# Altium schematic symbol library Esima_E_Meter_CPU.SCHLIB: 26 symbols
Pins are listed as number, name and electrical type; pins without a type are passive.

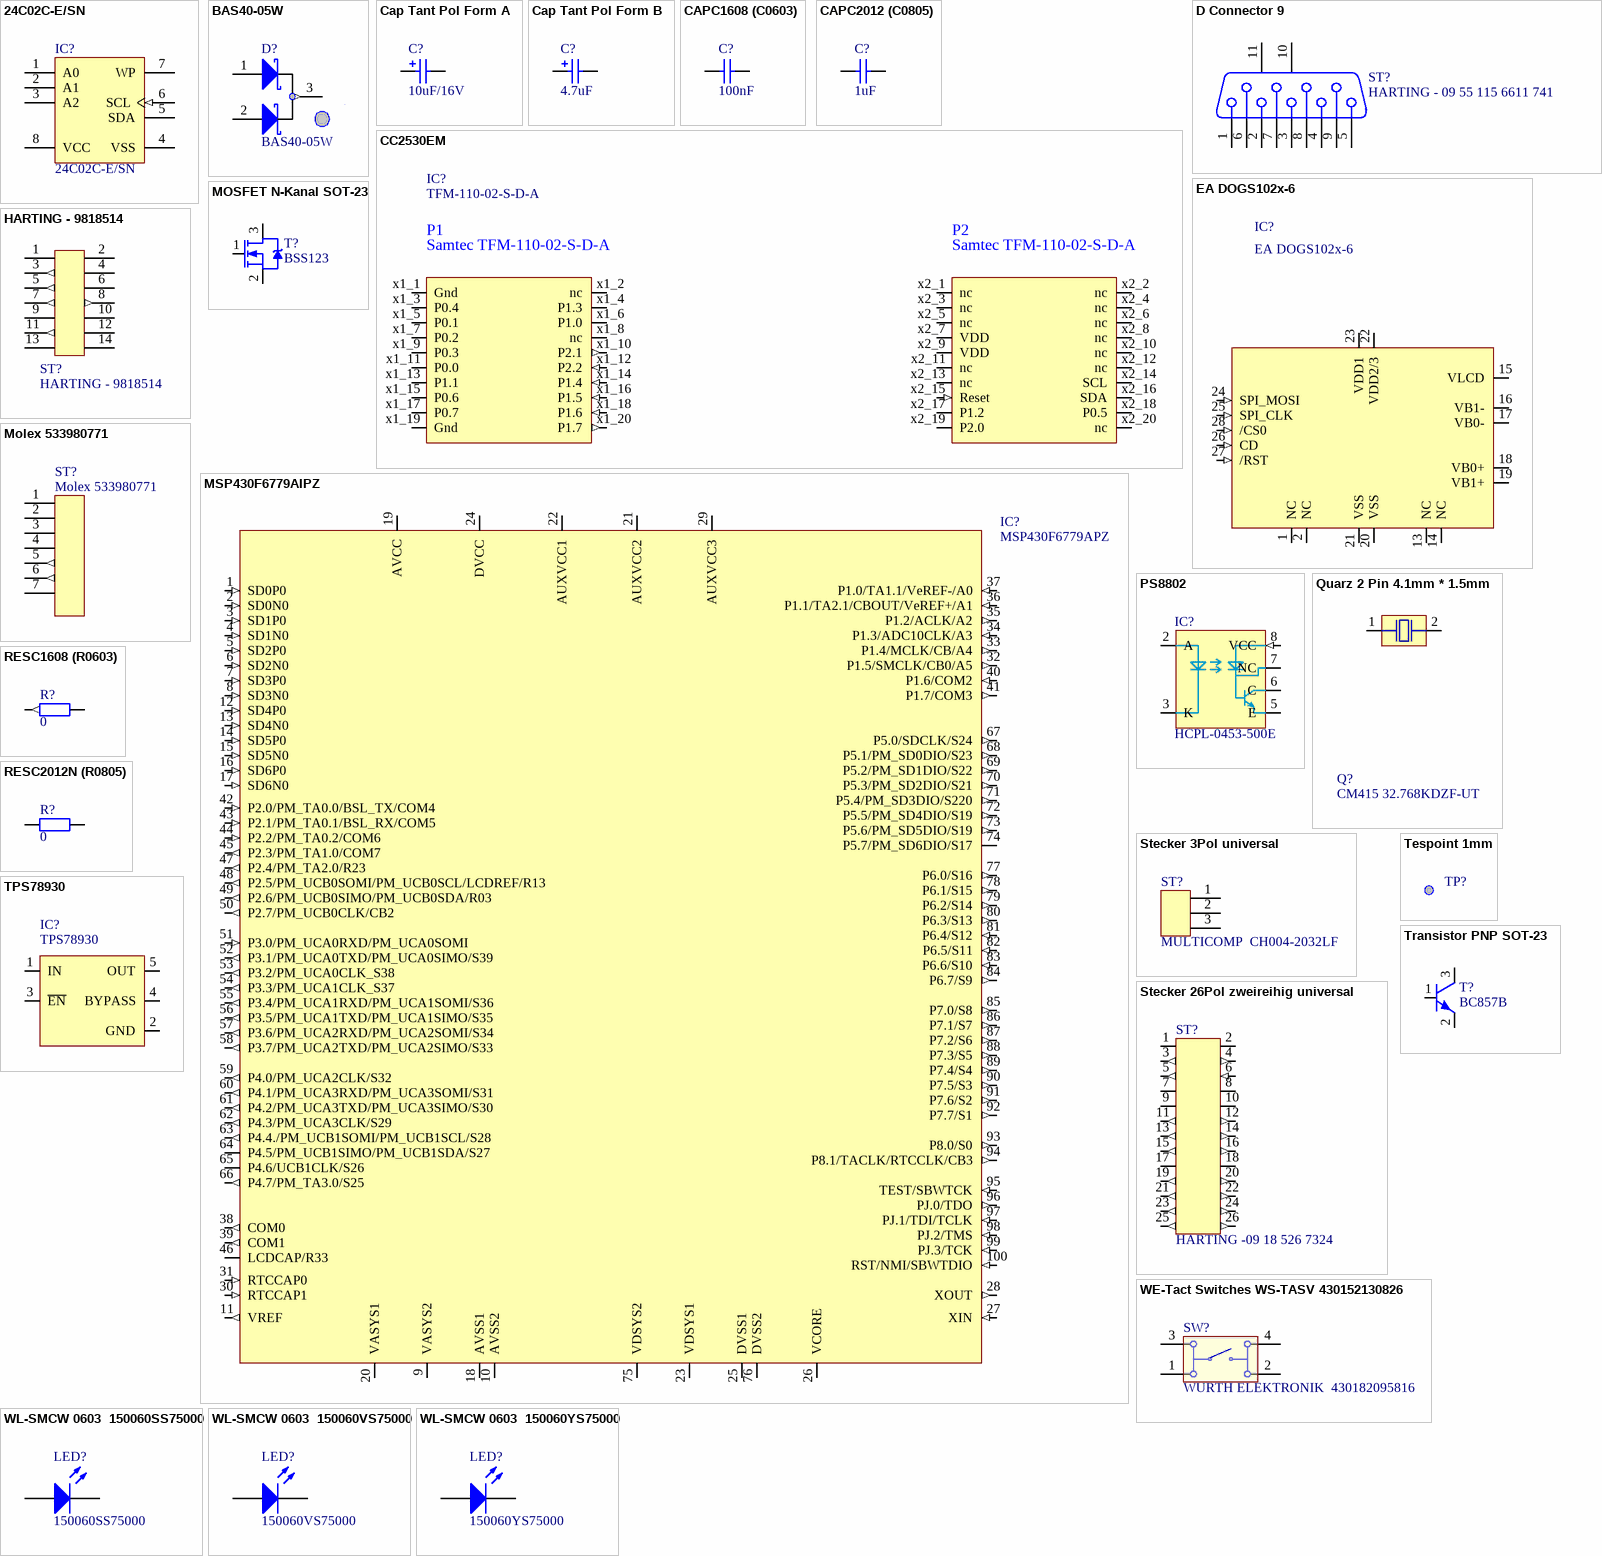
[diagram p0: symbols 24C02C-E/SN to WL-SMCW 0603  150060YS75000]

## 24C02C-E/SN
designator IC?
2Kbit, 400kHz, 5V, I2C Serial EEPROM, 8-Pin SOIC 150mil, Extended Temperature; Supplier 1: Farnell; Supplier Part Number 1: 1084339
footprint SOIC-SN8_N (SOIC, 8-Leads, Body 4.9x3.8mm, Pitch 1.27mm, IPC Medium Density)
footprint SOIC-SN8_L (SOIC, 8-Leads, Body 4.9x3.8mm, Pitch 1.27mm, IPC High Density)
footprint SOIC-SN8_M (SOIC, 8-Leads, Body 4.9x3.8mm, Pitch 1.27mm, IPC Low Density)
pins: 1 A0, 2 A1, 3 A2, 4 VSS (power), 5 SDA (oc), 6 SCL (in), 7 WP, 8 VCC (power)

## BAS40-05W
designator D?
Diode Schottky Dual SOT-323 (SC70); Supplier 1: Farnell; Supplier Part Number 1: 8734330
footprint SOT-323N (SC-70) (SOT323, 3-Leads, Body 2x1.3mm, Pitch 0.65mm, Lead Span 2.1mm, IPC Medium Density)
pins: 1 A1, 2 A2, 3 K (out)

## Cap Tant Pol Form A
designator C?, comment 10uF/16V
Cap Tant Pol Form A; Supplier 1: Farnell; Supplier Part Number 1: 9227873RL
footprint Cap Tant Pol Form A (Tantalum Solid Electrolytic Chip Capacitors  with Conductive Polymer Electrode)
pins: 1, 2

## Cap Tant Pol Form B
designator C?, comment 4.7uF
Supplier 1: Farnell; Supplier Part Number 1: 2353051
footprint Cap Tant Pol Form B (Cap Tantal 6.0mm*3.5*mm*2.8mm)
pins: 1, 2

## CAPC1608 (C0603)
designator C?, comment 100nF
CAPC1608 (C0603); Supplier 1: Farnell; Supplier Part Number 1: 1657913
footprint CAPC1608N (Chip Capacitor, Body 1.6x0.8mm, IPC Medium Density)
footprint VP32-3.2 (Capacitor, Ceramic, Thru-Hole, Dipped Radial; Body 5.1 x 3.2 mm (WxT) Pin Spacing 2.54 mm (typ))
footprint VP45-3.2 (Capacitor, Ceramic, Thru-Hole, Dipped Radial; Body 7.8 x 3.2 mm (WxT) Pin Spacing 5.08 mm (typ))
simulation model CAP (Capacitor)
signal-integrity model Cap
pins: 1, 2

## CAPC2012 (C0805)
designator C?, comment 1uF
CAPC2012 (C0805); Supplier 1: Farnell; Supplier Part Number 1: 9227873RL
footprint CAPC2012N (Chip Capacitor, Body 2.0x1.3mm, IPC Medium Density)
footprint VP45-3.2 (Capacitor, Ceramic, Thru-Hole, Dipped Radial; Body 7.8 x 3.2 mm (WxT) Pin Spacing 5.08 mm (typ))
simulation model CAP (Capacitor)
signal-integrity model Cap
pins: 1, 2

## CC2530EM
designator IC?, comment TFM-110-02-S-D-A
Samtec Connecotor; Supplier 1: Farnell; Supplier Part Number 1: 2308453
footprint CC2530EM-Board (CC2530EM Eva Board)
pins: x1_1 Gnd (power), x1_2 nc, x1_3 P0.4 (io), x1_4 P1.3 (io), x1_5 P0.1 (io), x1_6 P1.0 (io), x1_7 P0.2 (io), x1_8 nc, x1_9 P0.3 (io), x1_10 P2.1 (out), x1_11 P0.0 (io), x1_12 P2.2 (in), x1_13 P1.1 (io), x1_14 P1.4 (in), x1_15 P0.6 (io), x1_16 P1.5 (in), x1_17 P0.7 (io), x1_18 P1.6 (in), x1_19 Gnd (power), x1_20 P1.7 (out), x2_1 nc, x2_2 nc, x2_3 nc, x2_4 nc, x2_5 nc, x2_6 nc, x2_7 VDD (power), x2_8 nc, x2_9 VDD (power), x2_10 nc, x2_11 nc, x2_12 nc, x2_13 nc, x2_14 SCL (oc), x2_15 Reset (in), x2_16 SDA (oc), x2_17 P1.2 (io), x2_18 P0.5 (io), x2_19 P2.0 (io), x2_20 nc
text: P1; P2; Samtec TFM-110-02-S-D-A

## D Connector 9
designator ST?, comment HARTING - 09 55 115 6611 741
HARTING - 09 55 115 6611 741 - D-SUB, BUCHSE, SMT, M3, 9POL; Supplier 1: Farnell; Supplier Part Number 1: 2356655
footprint Harting D-SUB SMT 9 poles
pins: 1, 2, 3, 4, 5, 6, 7, 8, 9, 10 MH1, 11 MH2

## EA DOGS102x-6
designator IC?
LCD Graphic Display 102*64 Dots SPI-Interface; Supplier 1: Mouser; Supplier Part Number 1: 790-EADOGS102W-6
footprint EA DOGS102x-6 (Footprint not found)
pins: 1 NC, 2 NC, 13 NC, 14 NC, 15 VLCD, 16 VB1-, 17 VB0-, 18 VB0+, 19 VB1+, 20 VSS (power), 21 VSS (power), 22 VDD2/3 (power), 23 VDD1 (power), 24 SPI_MOSI (in), 25 SPI_CLK (in), 26 CD (in), 27 /RST (in), 28 /CS0 (in)

## HARTING - 9818514
designator ST?
Messerleiste Gerade 14Pol; Supplier 1: Farnell; Supplier Part Number 1: 1096986
footprint HARTING -09 18 514 7324 (HARTING - 09 18 514 7324)
pins: 1, 2, 3 (out), 4, 5 (out), 6, 7 (out), 8 (out), 9, 10, 11 (out), 12, 13, 14

## Molex 533980771
designator ST?
Molex Pico 7Pol Blade SMD gerade 533980771; Supplier 1: Farnell; Supplier Part Number 1: 9786368
footprint Molex 533980771 (MOLEX - 53398-0771 - STIFTLEISTE, SMT, 1.25MM, 7POL)
pins: 1, 2, 3, 4, 5 (out), 6 (out), 7, 8 hidden, 9 hidden

## MOSFET N-Kanal SOT-23
designator T?, comment BSS123
MOSFET N-Kanal SOT-23; 09_Ersteller: HSG Jürgen Merz; 02_Herstellerbezeichnung: ka; 10_Erstell_Datum: 10.06.2010
footprint SOT23-3N (SOT23, 3-Leads, Body 2.9x1.3mm, Pitch 0.95mm, Lead Span 2.5mm, IPC Medium Density)
pins: 1 G, 2 S, 3 D

## MSP430F6779AIPZ
designator IC?, comment MSP430F6779APZ
Mikroprozessor 16bit Polyphase Metering; Supplier 1: Mouser; Supplier Part Number 1: 595-MSP430F6779IPZ
footprint TI-PZ100_N (QFP, 100-Leads, Body 14x14mm, Pitch 0.5mm, IPC Medium Density)
pins: 1 SD0P0 (in), 2 SD0N0 (in), 3 SD1P0 (in), 4 SD1N0 (in), 5 SD2P0 (in), 6 SD2N0 (in), 7 SD3P0 (in), 8 SD3N0 (in), 9 VASYS2 (power), 10 AVSS2 (power), 11 VREF (out), 12 SD4P0 (in), 13 SD4N0 (in), 14 SD5P0 (in), 15 SD5N0 (in), 16 SD6P0 (in), 17 SD6N0 (in), 18 AVSS1 (power), 19 AVCC (power), 20 VASYS1 (power), 21 AUXVCC2 (power), 22 AUXVCC1 (power), 23 VDSYS1 (power), 24 DVCC (power), 25 DVSS1 (power), 26 VCORE, 27 XIN (in), 28 XOUT (out), 29 AUXVCC3 (power), 30 RTCCAP1 (in), 31 RTCCAP0 (in), 32 P1.5/SMCLK/CB0/A5 (out), 33 P1.4/MCLK/CB/A4 (out), 34 P1.3/ADC10CLK/A3 (in), 35 P1.2/ACLK/A2 (out), 36 P1.1/TA2.1/CBOUT/VeREF+/A1 (in), 37 P1.0/TA1.1/VeREF-/A0 (in), 38 COM0 (out), 39 COM1 (out), 40 P1.6/COM2 (in), 41 P1.7/COM3 (out), 42 P2.0/PM_TA0.0/BSL_TX/COM4 (in), 43 P2.1/PM_TA0.1/BSL_RX/COM5 (in), 44 P2.2/PM_TA0.2/COM6 (in), 45 P2.3/PM_TA1.0/COM7 (out), 46 LCDCAP/R33, 47 P2.4/PM_TA2.0/R23 (out), 48 P2.5/PM_UCB0SOMI/PM_UCB0SCL/LCDREF/R13 (out), 49 P2.6/PM_UCB0SIMO/PM_UCB0SDA/R03 (out), 50 P2.7/PM_UCB0CLK/CB2 (out), 51 P3.0/PM_UCA0RXD/PM_UCA0SOMI (in), 52 P3.1/PM_UCA0TXD/PM_UCA0SIMO/S39 (out), 53 P3.2/PM_UCA0CLK_S38 (out), 54 P3.3/PM_UCA1CLK_S37 (out), 55 P3.4/PM_UCA1RXD/PM_UCA1SOMI/S36 (out), 56 P3.5/PM_UCA1TXD/PM_UCA1SIMO/S35 (out), 57 P3.6/PM_UCA2RXD/PM_UCA2SOMI/S34 (out), 58 P3.7/PM_UCA2TXD/PM_UCA2SIMO/S33 (out), 59 P4.0/PM_UCA2CLK/S32 (out), 60 P4.1/PM_UCA3RXD/PM_UCA3SOMI/S31 (out), 61 P4.2/PM_UCA3TXD/PM_UCA3SIMO/S30 (out), 62 P4.3/PM_UCA3CLK/S29 (out), 63 P4.4./PM_UCB1SOMI/PM_UCB1SCL/S28 (out), 64 P4.5/PM_UCB1SIMO/PM_UCB1SDA/S27 (oc), 65 P4.6/UCB1CLK/S26 (oc), 66 P4.7/PM_TA3.0/S25 (out), 67 P5.0/SDCLK/S24 (out), 68 P5.1/PM_SD0DIO/S23 (out), 69 P5.2/PM_SD1DIO/S22 (out), 70 P5.3/PM_SD2DIO/S21 (out), 71 P5.4/PM_SD3DIO/S220 (out), 72 P5.5/PM_SD4DIO/S19 (out), 73 P5.6/PM_SD5DIO/S19 (out), 74 P5.7/PM_SD6DIO/S17, 75 VDSYS2 (power), 76 DVSS2 (power), 77 P6.0/S16 (out), 78 P6.1/S15 (out), 79 P6.2/S14 (out), 80 P6.3/S13 (out), 81 P6.4/S12 (in), 82 P6.5/S11 (in), 83 P6.6/S10 (in), 84 P6.7/S9 (out), 85 P7.0/S8 (out), 86 P7.1/S7 (out), 87 P7.2/S6 (out), 88 P7.3/S5 (out), 89 P7.4/S4 (out), 90 P7.5/S3 (out), 91 P7.6/S2 (out), 92 P7.7/S1 (out), 93 P8.0/S0 (out), 94 P8.1/TACLK/RTCCLK/CB3 (out), 95 TEST/SBWTCK (in), 96 PJ.0/TDO (out), 97 PJ.1/TDI/TCLK (in), 98 PJ.2/TMS (in), 99 PJ.3/TCK (in), 100 RST/NMI/SBWTDIO (in)

## PS8802
designator IC?, comment HCPL-0453-500E
High Speed Optocoupler SO8; Supplier 1: Mouser; Supplier Part Number 1: 630-HCPL-0453-500E
footprint SOIC127P600-8N (SOIC, 8-Leads, Body 4.9x3.9mm, Pitch 1.27mm, IPC Medium Density)
pins: 1 NC hidden, 2 A, 3 K, 4 NC hidden, 5 E, 6 C, 7 NC, 8 VCC (in)

## Quarz 2 Pin 4.1mm * 1.5mm
designator Q?, comment CM415 32.768KDZF-UT
Quarz 2 Pin 4.1mm * 1.5mm; Supplier 1: Mouser; Supplier Part Number 1: 695-CM41532.768KDZF
footprint Quarz 2 Pin 4.1mm * 1.5mm (Chip Resistor, 2-Leads, Body 4,1x1,5mm, IPC Medium Density)
pins: 1 In, 2 Out (power)

## RESC1608 (R0603)
designator R?, comment 0
RESC1608 (R0603); Supplier 1: Farnell; Supplier Part Number 1: 2008343
footprint RESC1608N (Chip Resistor, Body 1.6x0.8mm, IPC Medium Density)
simulation model RESISTOR (Resistor)
signal-integrity model Res
pins: 1 (out), 2

## RESC2012N (R0805)
designator R?, comment 0
RESC2012N (R0805); Supplier 1: Farnell; Supplier Part Number 1: 9333681
simulation model RESISTOR (Resistor)
signal-integrity model Res
footprint RESC2012N (Chip Resistor, Body 2.0x1.3mm, IPC Medium Density)
pins: 1, 2

## Stecker 3Pol universal
designator ST?, comment MULTICOMP  CH004-2032LF
Stecker 3Pol universal; Supplier 1: Farnell; Supplier Part Number 1: 2064723
footprint MULTICOMP  CH004-2032LF (MULTICOMP  CH004-2032LF  BATTERIEHALTER, SMT, 20MM)
pins: 1, 2, 3

## Stecker 26Pol zweireihig universal
designator ST?, comment HARTING -09 18 526 7324
Supplier 1: Farnell; Supplier Part Number 1: 1106836
footprint HARTING -09 18 526 7324
pins: 1 (power), 2 (power), 3 (out), 4 (out), 5 (out), 6 (in), 7, 8, 9, 10, 11 (out), 12 (out), 13 (out), 14 (out), 15 (out), 16 (out), 17, 18, 19 (out), 20 (out), 21 (out), 22 (out), 23 (out), 24 (out), 25 (out), 26 (out)

## Tespoint 1mm
designator TP?, comment Testpoint 1mm  (value not drawn)  (no BOM)
footprint Testpoint 1mm
pins: 1

## TPS78930
designator IC?
Voltageregulator low Current; Supplier 1: Farnell; Supplier Part Number 1: 8461732
footprint TI-DBV5 (SOT23-5) (DBV (R-PDSO-G5))
pins: 1 IN (power), 2 GND (power), 3 ~{EN}, 4 BYPASS, 5 OUT (power)

## Transistor PNP SOT-23
designator T?, comment BC857B
Transistor PNP SOT-23; Supplier 1: Farnell; Supplier Part Number 1: 1798069
footprint SOT23-3N (SOT23, 3-Leads, Body 2.9x1.3mm, Pitch 0.95mm, Lead Span 2.5mm, IPC Medium Density)
pins: 1 G, 2 S, 3 D

## WE-Tact Switches WS-TASV 430152130826
designator SW?, comment WURTH ELEKTRONIK  430182095816
WS-TASV SMD Tact Switch 6X6 mm; Manufacturer: W¨¹rth Elektronik eiSos GmbH & Co.KG; partNo: 430152130826; ComponentLink1 Description: Manufacturer; ComponentLink2 Description: Datasheet; Creat by: Karrer Zheng; NoPins: 04; Creat Date: 28 February 2014; ComponentLink1URL: http://www.we-online.com; ComponentLink2URL: http://katalog.we-online.de/em/datasheet/4301x2.pdf; Supplier 1: Farnell; Supplier Part Number 1: 2065108
footprint 430152130826
pins: 1, 2, 3, 4

## WL-SMCW 0603  150060SS75000
designator LED?, comment 150060SS75000
LED, 0603, SUP. ROT, 60MCD, 630NM; Supplier 1: Farnell; Supplier Part Number 1: 2322072
footprint 0603 (Chip LED, 2-Leads, Body 1.6x0.8mm, IPC Medium Density)
pins: 1 C, 2 A

## WL-SMCW 0603  150060VS75000
designator LED?, comment 150060VS75000
LED, 0603, GRÜN, 40MCD, 570NM; Supplier 1: Farnell; Supplier Part Number 1: 2322073
footprint 0603 (Chip LED, 2-Leads, Body 1.6x0.8mm, IPC Medium Density)
pins: 1 C, 2 A

## WL-SMCW 0603  150060YS75000
designator LED?, comment 150060YS75000
LED, 0603, GELB, 120MCD, 590NM; Supplier 1: Farnell; Supplier Part Number 1: 2322074
footprint 0603 (Chip LED, 2-Leads, Body 1.6x0.8mm, IPC Medium Density)
pins: 1 C, 2 A